# EAGLE library part PCA9548ADW (library PCA9548ADW)
8-CHANNEL I2C SWITCH WITH RESET Source: Datasheet <http://www.ti.com/lit/gpn/PCA9548A>
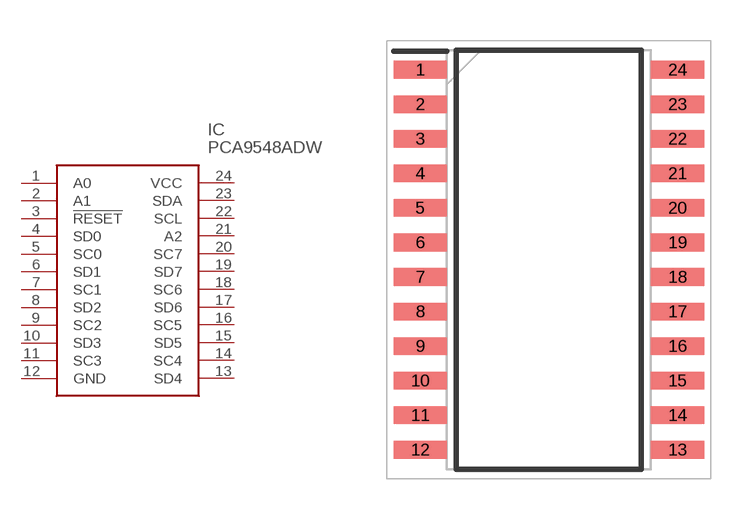
[diagram p0: symbol with the pads of SOIC127P1030X265-24N; footprint SOIC127P1030X265-24N]

Designator prefix IC

## PCA9548ADW (Description: 8-CHANNEL I2C SWITCH WITH RESET; Height: 2.65mm; Manufacturer_Name: Texas Instruments; Manufacturer_Part_Number: PCA9548ADW; Mouser_Part_Number: 595-PCA9548ADW; Mouser_Price-Stock: https://www.mouser.co.uk/ProductDetail/Texas-Instruments/PCA9548ADW?qs=qRemG2J%252Bg%2FVvm%2FYCmfqZXA%3D%3D)  [SOIC127P1030X265-24N]
1  A0
2  A1
3  !RESET
4  SD0
5  SC0
6  SD1
7  SC1
8  SD2
9  SC2
10  SD3
11  SC3
12  GND
13  SD4
14  SC4
15  SD5
16  SC5
17  SD6
18  SC6
19  SD7
20  SC7
21  A2
22  SCL
23  SDA
24  VCC

## Footprint SOIC127P1030X265-24N (pad centres in mm)
DW-24
smd 1.95 x 0.65: 1 -4.725,6.985; 2 -4.725,5.715; 3 -4.725,4.445; 4 -4.725,3.175; 5 -4.725,1.905; 6 -4.725,0.635; 7 -4.725,-0.635; 8 -4.725,-1.905; 9 -4.725,-3.175; 10 -4.725,-4.445; 11 -4.725,-5.715; 12 -4.725,-6.985; 13 4.725,-6.985; 14 4.725,-5.715; 15 4.725,-4.445; 16 4.725,-3.175; 17 4.725,-1.905; 18 4.725,-0.635; 19 4.725,0.635; 20 4.725,1.905; 21 4.725,3.175; 22 4.725,4.445; 23 4.725,5.715; 24 4.725,6.985